# Altium footprint library Analog Devices Data Converters Analog-to-Digital Converters.PcbLib: 279 footprints (part 7 of 18)
Each footprint in its own frame and in the unit in brackets; x right, y up, seen from the top. Pads: shape width x height; smd on the part's side, far side on the other; paste and mask are expansions set on the pad; w line width, h text height; cw(c..) or ccw(c..) is an arc to the next point about the centre after c.
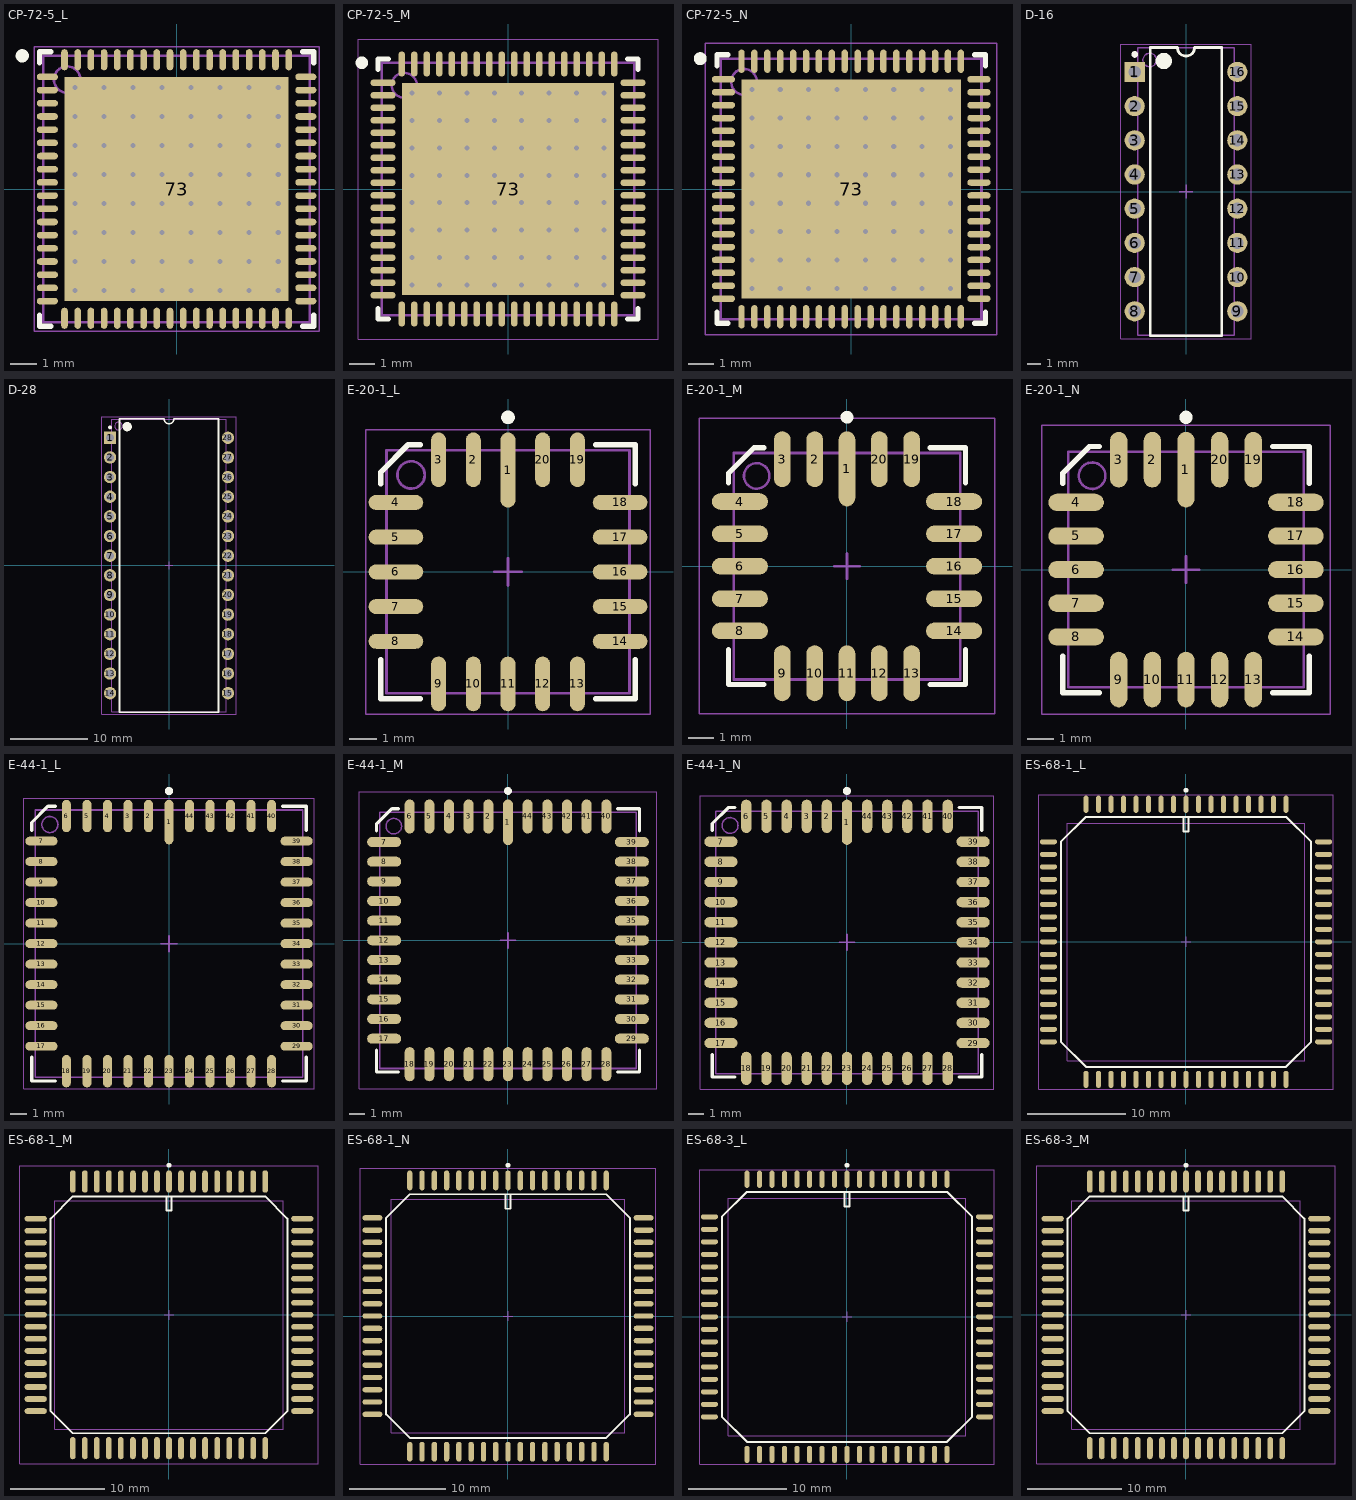
[diagram p6: the footprints below, top view; thin cyan lines are the x and y axes]

## CP-72-5_L [mm] "QFN, 72-Leads, Body 10x10mm, Pitch 0.5mm, Thermal Pad 8.5x8.5mm, IPC High Density"
height 1
pads (73):
  oval 0.8x0.25 smd: 1(-4.9,4.25) 2(-4.9,3.75) 3(-4.9,3.25) 4(-4.9,2.75) 5(-4.9,2.25) 6(-4.9,1.75) 7(-4.9,1.25) 8(-4.9,0.75) 9(-4.9,0.25) 10(-4.9,-0.25) 11(-4.9,-0.75) 12(-4.9,-1.25) 13(-4.9,-1.75) 14(-4.9,-2.25) 15(-4.9,-2.75) 16(-4.9,-3.25) 17(-4.9,-3.75) 18(-4.9,-4.25) 37(4.9,-4.25) 38(4.9,-3.75) 39(4.9,-3.25) 40(4.9,-2.75) 41(4.9,-2.25) 42(4.9,-1.75) 43(4.9,-1.25) 44(4.9,-0.75) 45(4.9,-0.25) 46(4.9,0.25) 47(4.9,0.75) 48(4.9,1.25) 49(4.9,1.75) 50(4.9,2.25) 51(4.9,2.75) 52(4.9,3.25) 53(4.9,3.75) 54(4.9,4.25)
  oval 0.25x0.8 smd: 19(-4.25,-4.9) 20(-3.75,-4.9) 21(-3.25,-4.9) 22(-2.75,-4.9) 23(-2.25,-4.9) 24(-1.75,-4.9) 25(-1.25,-4.9) 26(-0.75,-4.9) 27(-0.25,-4.9) 28(0.25,-4.9) 29(0.75,-4.9) 30(1.25,-4.9) 31(1.75,-4.9) 32(2.25,-4.9) 33(2.75,-4.9) 34(3.25,-4.9) 35(3.75,-4.9) 36(4.25,-4.9) 55(4.25,4.9) 56(3.75,4.9) 57(3.25,4.9) 58(2.75,4.9) 59(2.25,4.9) 60(1.75,4.9) 61(1.25,4.9) 62(0.75,4.9) 63(0.25,4.9) 64(-0.25,4.9) 65(-0.75,4.9) 66(-1.25,4.9) 67(-1.75,4.9) 68(-2.25,4.9) 69(-2.75,4.9) 70(-3.25,4.9) 71(-3.75,4.9) 72(-4.25,4.9)
  rect 8.5x8.5 smd: 73(0,0)
via 3.85,-3.85 diameter 0.5 hole 0.2
via 2.75,-3.85 diameter 0.5 hole 0.2
via 1.65,-3.85 diameter 0.5 hole 0.2
via 0.55,-3.85 diameter 0.5 hole 0.2
via -0.55,-3.85 diameter 0.5 hole 0.2
via -1.65,-3.85 diameter 0.5 hole 0.2
via -2.75,-3.85 diameter 0.5 hole 0.2
via -3.85,-3.85 diameter 0.5 hole 0.2
via 3.85,-2.75 diameter 0.5 hole 0.2
via 2.75,-2.75 diameter 0.5 hole 0.2
via 1.65,-2.75 diameter 0.5 hole 0.2
via 0.55,-2.75 diameter 0.5 hole 0.2
via -0.55,-2.75 diameter 0.5 hole 0.2
via -1.65,-2.75 diameter 0.5 hole 0.2
via -2.75,-2.75 diameter 0.5 hole 0.2
via -3.85,-2.75 diameter 0.5 hole 0.2
via 3.85,-1.65 diameter 0.5 hole 0.2
via 2.75,-1.65 diameter 0.5 hole 0.2
via 1.65,-1.65 diameter 0.5 hole 0.2
via 0.55,-1.65 diameter 0.5 hole 0.2
via -0.55,-1.65 diameter 0.5 hole 0.2
via -1.65,-1.65 diameter 0.5 hole 0.2
via -2.75,-1.65 diameter 0.5 hole 0.2
via -3.85,-1.65 diameter 0.5 hole 0.2
via 3.85,-0.55 diameter 0.5 hole 0.2
via 2.75,-0.55 diameter 0.5 hole 0.2
via 1.65,-0.55 diameter 0.5 hole 0.2
via 0.55,-0.55 diameter 0.5 hole 0.2
via -0.55,-0.55 diameter 0.5 hole 0.2
via -1.65,-0.55 diameter 0.5 hole 0.2
via -2.75,-0.55 diameter 0.5 hole 0.2
via -3.85,-0.55 diameter 0.5 hole 0.2
via 3.85,0.55 diameter 0.5 hole 0.2
via 2.75,0.55 diameter 0.5 hole 0.2
via 1.65,0.55 diameter 0.5 hole 0.2
via 0.55,0.55 diameter 0.5 hole 0.2
via -0.55,0.55 diameter 0.5 hole 0.2
via -1.65,0.55 diameter 0.5 hole 0.2
via -2.75,0.55 diameter 0.5 hole 0.2
via -3.85,0.55 diameter 0.5 hole 0.2
via 3.85,1.65 diameter 0.5 hole 0.2
via 2.75,1.65 diameter 0.5 hole 0.2
via 1.65,1.65 diameter 0.5 hole 0.2
via 0.55,1.65 diameter 0.5 hole 0.2
via -0.55,1.65 diameter 0.5 hole 0.2
via -1.65,1.65 diameter 0.5 hole 0.2
via -2.75,1.65 diameter 0.5 hole 0.2
via -3.85,1.65 diameter 0.5 hole 0.2
via 3.85,2.75 diameter 0.5 hole 0.2
via 2.75,2.75 diameter 0.5 hole 0.2
via 1.65,2.75 diameter 0.5 hole 0.2
via 0.55,2.75 diameter 0.5 hole 0.2
via -0.55,2.75 diameter 0.5 hole 0.2
via -1.65,2.75 diameter 0.5 hole 0.2
via -2.75,2.75 diameter 0.5 hole 0.2
via -3.85,2.75 diameter 0.5 hole 0.2
via 3.85,3.85 diameter 0.5 hole 0.2
via 2.75,3.85 diameter 0.5 hole 0.2
via 1.65,3.85 diameter 0.5 hole 0.2
via 0.55,3.85 diameter 0.5 hole 0.2
via -0.55,3.85 diameter 0.5 hole 0.2
via -1.65,3.85 diameter 0.5 hole 0.2
via -2.75,3.85 diameter 0.5 hole 0.2
via -3.85,3.85 diameter 0.5 hole 0.2
Top Overlay:
  circle w0.25: c-5.85,5.05 r0.125
  lines w0.2: -5.2,-4.775 -5.2,-5.2 -4.775,-5.2 ; -5.2,4.775 -5.2,5.2 -4.775,5.2 ; 4.775,-5.2 5.2,-5.2 5.2,-4.775 ; 4.775,5.2 5.2,5.2 5.2,4.775
Mechanical 13:
  circle w0.1: c-4.15,4.15 r0.5
  lines w0.1: -5.05,-5.05 5.05,-5.05 5.05,5.05 -5.05,5.05 -5.05,-5.05
Mechanical 15:
  lines w0.05: -5.4,-5.4 5.4,-5.4 5.4,5.4 -5.4,5.4 -5.4,-5.4
  lines w0.1: -0.5,0 0.5,0 ; 0,-0.5 0,0.5
3D body: height 1, standoff 0, extent -5.05,-5.05 5.05,5.05

## CP-72-5_M [mm] "QFN, 72-Leads, Body 10x10mm, Pitch 0.5mm, Thermal Pad 8.5x8.5mm, IPC Low Density"
height 1
pads (73):
  oval 1x0.25 smd: 1(-5,4.25) 2(-5,3.75) 3(-5,3.25) 4(-5,2.75) 5(-5,2.25) 6(-5,1.75) 7(-5,1.25) 8(-5,0.75) 9(-5,0.25) 10(-5,-0.25) 11(-5,-0.75) 12(-5,-1.25) 13(-5,-1.75) 14(-5,-2.25) 15(-5,-2.75) 16(-5,-3.25) 17(-5,-3.75) 18(-5,-4.25) 37(5,-4.25) 38(5,-3.75) 39(5,-3.25) 40(5,-2.75) 41(5,-2.25) 42(5,-1.75) 43(5,-1.25) 44(5,-0.75) 45(5,-0.25) 46(5,0.25) 47(5,0.75) 48(5,1.25) 49(5,1.75) 50(5,2.25) 51(5,2.75) 52(5,3.25) 53(5,3.75) 54(5,4.25)
  oval 0.25x1 smd: 19(-4.25,-5) 20(-3.75,-5) 21(-3.25,-5) 22(-2.75,-5) 23(-2.25,-5) 24(-1.75,-5) 25(-1.25,-5) 26(-0.75,-5) 27(-0.25,-5) 28(0.25,-5) 29(0.75,-5) 30(1.25,-5) 31(1.75,-5) 32(2.25,-5) 33(2.75,-5) 34(3.25,-5) 35(3.75,-5) 36(4.25,-5) 55(4.25,5) 56(3.75,5) 57(3.25,5) 58(2.75,5) 59(2.25,5) 60(1.75,5) 61(1.25,5) 62(0.75,5) 63(0.25,5) 64(-0.25,5) 65(-0.75,5) 66(-1.25,5) 67(-1.75,5) 68(-2.25,5) 69(-2.75,5) 70(-3.25,5) 71(-3.75,5) 72(-4.25,5)
  rect 8.5x8.5 smd: 73(0,0)
via 3.85,-3.85 diameter 0.5 hole 0.2
via 2.75,-3.85 diameter 0.5 hole 0.2
via 1.65,-3.85 diameter 0.5 hole 0.2
via 0.55,-3.85 diameter 0.5 hole 0.2
via -0.55,-3.85 diameter 0.5 hole 0.2
via -1.65,-3.85 diameter 0.5 hole 0.2
via -2.75,-3.85 diameter 0.5 hole 0.2
via -3.85,-3.85 diameter 0.5 hole 0.2
via 3.85,-2.75 diameter 0.5 hole 0.2
via 2.75,-2.75 diameter 0.5 hole 0.2
via 1.65,-2.75 diameter 0.5 hole 0.2
via 0.55,-2.75 diameter 0.5 hole 0.2
via -0.55,-2.75 diameter 0.5 hole 0.2
via -1.65,-2.75 diameter 0.5 hole 0.2
via -2.75,-2.75 diameter 0.5 hole 0.2
via -3.85,-2.75 diameter 0.5 hole 0.2
via 3.85,-1.65 diameter 0.5 hole 0.2
via 2.75,-1.65 diameter 0.5 hole 0.2
via 1.65,-1.65 diameter 0.5 hole 0.2
via 0.55,-1.65 diameter 0.5 hole 0.2
via -0.55,-1.65 diameter 0.5 hole 0.2
via -1.65,-1.65 diameter 0.5 hole 0.2
via -2.75,-1.65 diameter 0.5 hole 0.2
via -3.85,-1.65 diameter 0.5 hole 0.2
via 3.85,-0.55 diameter 0.5 hole 0.2
via 2.75,-0.55 diameter 0.5 hole 0.2
via 1.65,-0.55 diameter 0.5 hole 0.2
via 0.55,-0.55 diameter 0.5 hole 0.2
via -0.55,-0.55 diameter 0.5 hole 0.2
via -1.65,-0.55 diameter 0.5 hole 0.2
via -2.75,-0.55 diameter 0.5 hole 0.2
via -3.85,-0.55 diameter 0.5 hole 0.2
via 3.85,0.55 diameter 0.5 hole 0.2
via 2.75,0.55 diameter 0.5 hole 0.2
via 1.65,0.55 diameter 0.5 hole 0.2
via 0.55,0.55 diameter 0.5 hole 0.2
via -0.55,0.55 diameter 0.5 hole 0.2
via -1.65,0.55 diameter 0.5 hole 0.2
via -2.75,0.55 diameter 0.5 hole 0.2
via -3.85,0.55 diameter 0.5 hole 0.2
via 3.85,1.65 diameter 0.5 hole 0.2
via 2.75,1.65 diameter 0.5 hole 0.2
via 1.65,1.65 diameter 0.5 hole 0.2
via 0.55,1.65 diameter 0.5 hole 0.2
via -0.55,1.65 diameter 0.5 hole 0.2
via -1.65,1.65 diameter 0.5 hole 0.2
via -2.75,1.65 diameter 0.5 hole 0.2
via -3.85,1.65 diameter 0.5 hole 0.2
via 3.85,2.75 diameter 0.5 hole 0.2
via 2.75,2.75 diameter 0.5 hole 0.2
via 1.65,2.75 diameter 0.5 hole 0.2
via 0.55,2.75 diameter 0.5 hole 0.2
via -0.55,2.75 diameter 0.5 hole 0.2
via -1.65,2.75 diameter 0.5 hole 0.2
via -2.75,2.75 diameter 0.5 hole 0.2
via -3.85,2.75 diameter 0.5 hole 0.2
via 3.85,3.85 diameter 0.5 hole 0.2
via 2.75,3.85 diameter 0.5 hole 0.2
via 1.65,3.85 diameter 0.5 hole 0.2
via 0.55,3.85 diameter 0.5 hole 0.2
via -0.55,3.85 diameter 0.5 hole 0.2
via -1.65,3.85 diameter 0.5 hole 0.2
via -2.75,3.85 diameter 0.5 hole 0.2
via -3.85,3.85 diameter 0.5 hole 0.2
Top Overlay:
  circle w0.25: c-5.85,5.05 r0.125
  lines w0.2: -5.2,-4.775 -5.2,-5.2 -4.775,-5.2 ; -5.2,4.775 -5.2,5.2 -4.775,5.2 ; 4.775,-5.2 5.2,-5.2 5.2,-4.775 ; 4.775,5.2 5.2,5.2 5.2,4.775
Mechanical 13:
  circle w0.1: c-4.15,4.15 r0.5
  lines w0.1: -5.05,-5.05 5.05,-5.05 5.05,5.05 -5.05,5.05 -5.05,-5.05
Mechanical 15:
  lines w0.05: -6,-6 6,-6 6,6 -6,6 -6,-6
  lines w0.1: -0.5,0 0.5,0 ; 0,-0.5 0,0.5
3D body: height 1, standoff 0, extent -5.05,-5.05 5.05,5.05

## CP-72-5_N [mm] "QFN, 72-Leads, Body 10x10mm, Pitch 0.5mm, Thermal Pad 8.5x8.5mm, IPC Medium Density"
height 1
pads (73):
  oval 0.9x0.25 smd: 1(-4.95,4.25) 2(-4.95,3.75) 3(-4.95,3.25) 4(-4.95,2.75) 5(-4.95,2.25) 6(-4.95,1.75) 7(-4.95,1.25) 8(-4.95,0.75) 9(-4.95,0.25) 10(-4.95,-0.25) 11(-4.95,-0.75) 12(-4.95,-1.25) 13(-4.95,-1.75) 14(-4.95,-2.25) 15(-4.95,-2.75) 16(-4.95,-3.25) 17(-4.95,-3.75) 18(-4.95,-4.25) 37(4.95,-4.25) 38(4.95,-3.75) 39(4.95,-3.25) 40(4.95,-2.75) 41(4.95,-2.25) 42(4.95,-1.75) 43(4.95,-1.25) 44(4.95,-0.75) 45(4.95,-0.25) 46(4.95,0.25) 47(4.95,0.75) 48(4.95,1.25) 49(4.95,1.75) 50(4.95,2.25) 51(4.95,2.75) 52(4.95,3.25) 53(4.95,3.75) 54(4.95,4.25)
  oval 0.25x0.9 smd: 19(-4.25,-4.95) 20(-3.75,-4.95) 21(-3.25,-4.95) 22(-2.75,-4.95) 23(-2.25,-4.95) 24(-1.75,-4.95) 25(-1.25,-4.95) 26(-0.75,-4.95) 27(-0.25,-4.95) 28(0.25,-4.95) 29(0.75,-4.95) 30(1.25,-4.95) 31(1.75,-4.95) 32(2.25,-4.95) 33(2.75,-4.95) 34(3.25,-4.95) 35(3.75,-4.95) 36(4.25,-4.95) 55(4.25,4.95) 56(3.75,4.95) 57(3.25,4.95) 58(2.75,4.95) 59(2.25,4.95) 60(1.75,4.95) 61(1.25,4.95) 62(0.75,4.95) 63(0.25,4.95) 64(-0.25,4.95) 65(-0.75,4.95) 66(-1.25,4.95) 67(-1.75,4.95) 68(-2.25,4.95) 69(-2.75,4.95) 70(-3.25,4.95) 71(-3.75,4.95) 72(-4.25,4.95)
  rect 8.5x8.5 smd: 73(0,0)
via -3.85,3.85 diameter 0.5 hole 0.2
via -2.75,3.85 diameter 0.5 hole 0.2
via -1.65,3.85 diameter 0.5 hole 0.2
via -0.55,3.85 diameter 0.5 hole 0.2
via 0.55,3.85 diameter 0.5 hole 0.2
via 1.65,3.85 diameter 0.5 hole 0.2
via 2.75,3.85 diameter 0.5 hole 0.2
via 3.85,3.85 diameter 0.5 hole 0.2
via -3.85,2.75 diameter 0.5 hole 0.2
via -2.75,2.75 diameter 0.5 hole 0.2
via -1.65,2.75 diameter 0.5 hole 0.2
via -0.55,2.75 diameter 0.5 hole 0.2
via 0.55,2.75 diameter 0.5 hole 0.2
via 1.65,2.75 diameter 0.5 hole 0.2
via 2.75,2.75 diameter 0.5 hole 0.2
via 3.85,2.75 diameter 0.5 hole 0.2
via -3.85,1.65 diameter 0.5 hole 0.2
via -2.75,1.65 diameter 0.5 hole 0.2
via -1.65,1.65 diameter 0.5 hole 0.2
via -0.55,1.65 diameter 0.5 hole 0.2
via 0.55,1.65 diameter 0.5 hole 0.2
via 1.65,1.65 diameter 0.5 hole 0.2
via 2.75,1.65 diameter 0.5 hole 0.2
via 3.85,1.65 diameter 0.5 hole 0.2
via -3.85,0.55 diameter 0.5 hole 0.2
via -2.75,0.55 diameter 0.5 hole 0.2
via -1.65,0.55 diameter 0.5 hole 0.2
via -0.55,0.55 diameter 0.5 hole 0.2
via 0.55,0.55 diameter 0.5 hole 0.2
via 1.65,0.55 diameter 0.5 hole 0.2
via 2.75,0.55 diameter 0.5 hole 0.2
via 3.85,0.55 diameter 0.5 hole 0.2
via -3.85,-0.55 diameter 0.5 hole 0.2
via -2.75,-0.55 diameter 0.5 hole 0.2
via -1.65,-0.55 diameter 0.5 hole 0.2
via -0.55,-0.55 diameter 0.5 hole 0.2
via 0.55,-0.55 diameter 0.5 hole 0.2
via 1.65,-0.55 diameter 0.5 hole 0.2
via 2.75,-0.55 diameter 0.5 hole 0.2
via 3.85,-0.55 diameter 0.5 hole 0.2
via -3.85,-1.65 diameter 0.5 hole 0.2
via -2.75,-1.65 diameter 0.5 hole 0.2
via -1.65,-1.65 diameter 0.5 hole 0.2
via -0.55,-1.65 diameter 0.5 hole 0.2
via 0.55,-1.65 diameter 0.5 hole 0.2
via 1.65,-1.65 diameter 0.5 hole 0.2
via 2.75,-1.65 diameter 0.5 hole 0.2
via 3.85,-1.65 diameter 0.5 hole 0.2
via -3.85,-2.75 diameter 0.5 hole 0.2
via -2.75,-2.75 diameter 0.5 hole 0.2
via -1.65,-2.75 diameter 0.5 hole 0.2
via -0.55,-2.75 diameter 0.5 hole 0.2
via 0.55,-2.75 diameter 0.5 hole 0.2
via 1.65,-2.75 diameter 0.5 hole 0.2
via 2.75,-2.75 diameter 0.5 hole 0.2
via 3.85,-2.75 diameter 0.5 hole 0.2
via -3.85,-3.85 diameter 0.5 hole 0.2
via -2.75,-3.85 diameter 0.5 hole 0.2
via -1.65,-3.85 diameter 0.5 hole 0.2
via -0.55,-3.85 diameter 0.5 hole 0.2
via 0.55,-3.85 diameter 0.5 hole 0.2
via 1.65,-3.85 diameter 0.5 hole 0.2
via 2.75,-3.85 diameter 0.5 hole 0.2
via 3.85,-3.85 diameter 0.5 hole 0.2
Top Overlay:
  circle w0.25: c-5.85,5.05 r0.125
  lines w0.2: -5.2,-4.775 -5.2,-5.2 -4.775,-5.2 ; -5.2,4.775 -5.2,5.2 -4.775,5.2 ; 4.775,-5.2 5.2,-5.2 5.2,-4.775 ; 4.775,5.2 5.2,5.2 5.2,4.775
Mechanical 13:
  circle w0.1: c-4.15,4.15 r0.5
  lines w0.1: -5.05,-5.05 -5.05,5.05 5.05,5.05 5.05,-5.05 -5.05,-5.05
Mechanical 15:
  lines w0.05: -5.65,-5.65 -5.65,5.65 5.65,5.65 5.65,-5.65 -5.65,-5.65
  lines w0.1: -0.5,0 0.5,0 ; 0,-0.5 0,0.5
3D body: height 1, standoff 0, extent -5.05,-5.05 5.05,5.05

## D-16 [mm] "DIP, 16-Leads, Row Spacing 7.62mm, Pitch 2.54mm, Body 21.3x6.7mm"
height 5.08
pads (16):
  rect 1.5x1.5 hole 0.9: 1(-3.81,8.89)
  round 1.5 hole 0.9: 2(-3.81,6.35) 3(-3.81,3.81) 4(-3.81,1.27) 5(-3.81,-1.27) 6(-3.81,-3.81) 7(-3.81,-6.35) 8(-3.81,-8.89) 9(3.81,-8.89) 10(3.81,-6.35) 11(3.81,-3.81) 12(3.81,-1.27) 13(3.81,1.27) 14(3.81,3.81) 15(3.81,6.35) 16(3.81,8.89)
Top Overlay:
  circle w0.6: c-1.65,9.7 r0.3
  circle w0.25: c-3.81,10.19 r0.125
  lines w0.2: -2.65,-10.7 2.65,-10.7 2.65,10.7 0.635,10.7 cw(c0,10.7) -0.635,10.7 -2.65,10.7 -2.65,-10.7
Mechanical 13:
  circle w0.1: c-2.7,9.775 r0.5
  lines w0.1: -3.6,-10.675 3.6,-10.675 3.6,10.675 -3.6,10.675 -3.6,-10.675
Mechanical 15:
  lines w0.05: -4.85,-10.95 4.85,-10.95 4.85,10.95 -4.85,10.95 -4.85,-10.95
  lines w0.1: -0.5,0 0.5,0 ; 0,-0.5 0,0.5
3D body: height 5.08, standoff 0.38, extent -3.6,-10.675 3.6,10.675

## D-28 [mm] "DIP, 28-Leads, Row Spacing 15.24mm, Pitch 2.54mm, Body 37.1x15.1mm"
height 5.72
pads (28):
  rect 1.6x1.6 hole 1: 1(-7.62,16.51)
  round 1.6 hole 1: 2(-7.62,13.97) 3(-7.62,11.43) 4(-7.62,8.89) 5(-7.62,6.35) 6(-7.62,3.81) 7(-7.62,1.27) 8(-7.62,-1.27) 9(-7.62,-3.81) 10(-7.62,-6.35) 11(-7.62,-8.89) 12(-7.62,-11.43) 13(-7.62,-13.97) 14(-7.62,-16.51) 15(7.62,-16.51) 16(7.62,-13.97) 17(7.62,-11.43) 18(7.62,-8.89) 19(7.62,-6.35) 20(7.62,-3.81) 21(7.62,-1.27) 22(7.62,1.27) 23(7.62,3.81) 24(7.62,6.35) 25(7.62,8.89) 26(7.62,11.43) 27(7.62,13.97) 28(7.62,16.51)
Top Overlay:
  circle w0.25: c-7.62,17.86 r0.125
  circle w0.6: c-5.4,17.95 r0.3
  lines w0.2: -6.4,-18.95 -6.4,18.95 -0.635,18.95 ccw(c0,18.95) 0.635,18.95 6.4,18.95 6.4,-18.95 -6.4,-18.95
Mechanical 13:
  circle w0.1: c-6.525,18.025 r0.5
  lines w0.1: -7.425,-18.925 -7.425,18.925 7.425,18.925 7.425,-18.925 -7.425,-18.925
Mechanical 15:
  lines w0.05: -8.7,-19.2 -8.7,19.2 8.7,19.2 8.7,-19.2 -8.7,-19.2
  lines w0.1: -0.5,0 0.5,0 ; 0,-0.5 0,0.5
3D body: height 5.72, standoff 0.38, extent -7.425,-18.925 7.425,18.925

## E-20-1_L [mm] "Leadless Chip Carrier, 20-Leads, Body 8.9x8.9mm, Pitch 1.27mm, IPC High Density"
height 2.54
pads (20):
  oval 0.55x2.75 smd: 1(0,3.725)
  oval 0.55x2 smd: 2(-1.27,4.1) 3(-2.54,4.1) 9(-2.54,-4.1) 10(-1.27,-4.1) 11(0,-4.1) 12(1.27,-4.1) 13(2.54,-4.1) 19(2.54,4.1) 20(1.27,4.1)
  oval 2x0.55 smd: 4(-4.1,2.54) 5(-4.1,1.27) 6(-4.1,0) 7(-4.1,-1.27) 8(-4.1,-2.54) 14(4.1,-2.54) 15(4.1,-1.27) 16(4.1,0) 17(4.1,1.27) 18(4.1,2.54)
Top Overlay:
  circle w0.25: c0,5.65 r0.125
  lines w0.2: -4.65,-3.215 -4.65,-4.65 -3.215,-4.65 ; -4.65,3.215 -4.65,3.65 -3.65,4.65 -3.215,4.65 ; 3.215,-4.65 4.65,-4.65 4.65,-3.215 ; 3.215,4.65 4.65,4.65 4.65,3.215
Mechanical 13:
  circle w0.1: c-3.545,3.545 r0.5
  lines w0.1: -4.445,-4.445 4.445,-4.445 4.445,4.445 -4.445,4.445 -4.445,-4.445
Mechanical 15:
  lines w0.05: -5.2,-5.2 5.2,-5.2 5.2,5.2 -5.2,5.2 -5.2,-5.2
  lines w0.1: -0.5,0 0.5,0 ; 0,-0.5 0,0.5
3D body: height 2.54, standoff 0, extent -4.445,-4.445 4.445,4.445

## E-20-1_M [mm] "Leadless Chip Carrier, 20-Leads, Body 8.9x8.9mm, Pitch 1.27mm, IPC Low Density"
height 2.54
pads (20):
  oval 0.65x2.95 smd: 1(0,3.825)
  oval 0.65x2.2 smd: 2(-1.27,4.2) 3(-2.54,4.2) 9(-2.54,-4.2) 10(-1.27,-4.2) 11(0,-4.2) 12(1.27,-4.2) 13(2.54,-4.2) 19(2.54,4.2) 20(1.27,4.2)
  oval 2.2x0.65 smd: 4(-4.2,2.54) 5(-4.2,1.27) 6(-4.2,0) 7(-4.2,-1.27) 8(-4.2,-2.54) 14(4.2,-2.54) 15(4.2,-1.27) 16(4.2,0) 17(4.2,1.27) 18(4.2,2.54)
Top Overlay:
  circle w0.25: c0,5.85 r0.125
  lines w0.2: -4.65,-3.265 -4.65,-4.65 -3.265,-4.65 ; -4.65,3.265 -4.65,3.65 -3.65,4.65 -3.265,4.65 ; 3.265,-4.65 4.65,-4.65 4.65,-3.265 ; 3.265,4.65 4.65,4.65 4.65,3.265
Mechanical 13:
  circle w0.1: c-3.545,3.545 r0.5
  lines w0.1: -4.445,-4.445 -4.445,4.445 4.445,4.445 4.445,-4.445 -4.445,-4.445
Mechanical 15:
  lines w0.05: -5.8,-5.8 -5.8,5.8 5.8,5.8 5.8,-5.8 -5.8,-5.8
  lines w0.1: -0.5,0 0.5,0 ; 0,-0.5 0,0.5
3D body: height 2.54, standoff 0, extent -4.445,-4.445 4.445,4.445

## E-20-1_N [mm] "Leadless Chip Carrier, 20-Leads, Body 8.9x8.9mm, Pitch 1.27mm, IPC Medium Density"
height 2.54
pads (20):
  oval 0.65x2.85 smd: 1(0,3.775)
  oval 0.65x2.1 smd: 2(-1.27,4.15) 3(-2.54,4.15) 9(-2.54,-4.15) 10(-1.27,-4.15) 11(0,-4.15) 12(1.27,-4.15) 13(2.54,-4.15) 19(2.54,4.15) 20(1.27,4.15)
  oval 2.1x0.65 smd: 4(-4.15,2.54) 5(-4.15,1.27) 6(-4.15,0) 7(-4.15,-1.27) 8(-4.15,-2.54) 14(4.15,-2.54) 15(4.15,-1.27) 16(4.15,0) 17(4.15,1.27) 18(4.15,2.54)
Top Overlay:
  circle w0.25: c0,5.75 r0.125
  lines w0.2: -4.65,-3.265 -4.65,-4.65 -3.265,-4.65 ; -4.65,3.265 -4.65,3.65 -3.65,4.65 -3.265,4.65 ; 3.265,-4.65 4.65,-4.65 4.65,-3.265 ; 3.265,4.65 4.65,4.65 4.65,3.265
Mechanical 13:
  circle w0.1: c-3.545,3.545 r0.5
  lines w0.1: -4.445,-4.445 -4.445,4.445 4.445,4.445 4.445,-4.445 -4.445,-4.445
Mechanical 15:
  lines w0.05: -5.45,-5.45 -5.45,5.45 5.45,5.45 5.45,-5.45 -5.45,-5.45
  lines w0.1: -0.5,0 0.5,0 ; 0,-0.5 0,0.5
3D body: height 2.54, standoff 0, extent -4.445,-4.445 4.445,4.445

## E-44-1_L [mm] "Leadless Chip Carrier, 44-Leads, Body 16.5x16.5mm, Pitch 1.27mm, IPC High Density"
height 2.54
pads (44):
  oval 0.55x2.75 smd: 1(0,7.525)
  oval 0.55x2 smd: 2(-1.27,7.9) 3(-2.54,7.9) 4(-3.81,7.9) 5(-5.08,7.9) 6(-6.35,7.9) 18(-6.35,-7.9) 19(-5.08,-7.9) 20(-3.81,-7.9) 21(-2.54,-7.9) 22(-1.27,-7.9) 23(0,-7.9) 24(1.27,-7.9) 25(2.54,-7.9) 26(3.81,-7.9) 27(5.08,-7.9) 28(6.35,-7.9) 40(6.35,7.9) 41(5.08,7.9) 42(3.81,7.9) 43(2.54,7.9) 44(1.27,7.9)
  oval 2x0.55 smd: 7(-7.9,6.35) 8(-7.9,5.08) 9(-7.9,3.81) 10(-7.9,2.54) 11(-7.9,1.27) 12(-7.9,0) 13(-7.9,-1.27) 14(-7.9,-2.54) 15(-7.9,-3.81) 16(-7.9,-5.08) 17(-7.9,-6.35) 29(7.9,-6.35) 30(7.9,-5.08) 31(7.9,-3.81) 32(7.9,-2.54) 33(7.9,-1.27) 34(7.9,0) 35(7.9,1.27) 36(7.9,2.54) 37(7.9,3.81) 38(7.9,5.08) 39(7.9,6.35)
Top Overlay:
  circle w0.25: c0,9.45 r0.125
  lines w0.2: -8.5,-7.025 -8.5,-8.5 -7.025,-8.5 ; -8.5,7.025 -8.5,7.5 -7.5,8.5 -7.025,8.5 ; 7.025,-8.5 8.5,-8.5 8.5,-7.025 ; 7.025,8.5 8.5,8.5 8.5,7.025
Mechanical 13:
  circle w0.1: c-7.375,7.375 r0.5
  lines w0.1: -8.275,-8.275 -8.275,8.275 8.275,8.275 8.275,-8.275 -8.275,-8.275
Mechanical 15:
  lines w0.05: -9,-9 -9,9 9,9 9,-9 -9,-9
  lines w0.1: -0.5,0 0.5,0 ; 0,-0.5 0,0.5
3D body: height 2.54, standoff 0, extent -8.275,-8.275 8.275,8.275

## E-44-1_M [mm] "Leadless Chip Carrier, 44-Leads, Body 16.5x16.5mm, Pitch 1.27mm, IPC Low Density"
height 2.54
pads (44):
  oval 0.65x2.95 smd: 1(0,7.625)
  oval 0.65x2.2 smd: 2(-1.27,8) 3(-2.54,8) 4(-3.81,8) 5(-5.08,8) 6(-6.35,8) 18(-6.35,-8) 19(-5.08,-8) 20(-3.81,-8) 21(-2.54,-8) 22(-1.27,-8) 23(0,-8) 24(1.27,-8) 25(2.54,-8) 26(3.81,-8) 27(5.08,-8) 28(6.35,-8) 40(6.35,8) 41(5.08,8) 42(3.81,8) 43(2.54,8) 44(1.27,8)
  oval 2.2x0.65 smd: 7(-8,6.35) 8(-8,5.08) 9(-8,3.81) 10(-8,2.54) 11(-8,1.27) 12(-8,0) 13(-8,-1.27) 14(-8,-2.54) 15(-8,-3.81) 16(-8,-5.08) 17(-8,-6.35) 29(8,-6.35) 30(8,-5.08) 31(8,-3.81) 32(8,-2.54) 33(8,-1.27) 34(8,0) 35(8,1.27) 36(8,2.54) 37(8,3.81) 38(8,5.08) 39(8,6.35)
Top Overlay:
  circle w0.25: c0,9.65 r0.125
  lines w0.2: -8.5,-7.075 -8.5,-8.5 -7.075,-8.5 ; -8.5,7.075 -8.5,7.5 -7.5,8.5 -7.075,8.5 ; 7.075,-8.5 8.5,-8.5 8.5,-7.075 ; 7.075,8.5 8.5,8.5 8.5,7.075
Mechanical 13:
  circle w0.1: c-7.375,7.375 r0.5
  lines w0.1: -8.275,-8.275 8.275,-8.275 8.275,8.275 -8.275,8.275 -8.275,-8.275
Mechanical 15:
  lines w0.05: -9.6,-9.6 9.6,-9.6 9.6,9.6 -9.6,9.6 -9.6,-9.6
  lines w0.1: -0.5,0 0.5,0 ; 0,-0.5 0,0.5
3D body: height 2.54, standoff 0, extent -8.275,-8.275 8.275,8.275

## E-44-1_N [mm] "Leadless Chip Carrier, 44-Leads, Body 16.5x16.5mm, Pitch 1.27mm, IPC Medium Density"
height 2.54
pads (44):
  oval 0.65x2.85 smd: 1(0,7.575)
  oval 0.65x2.1 smd: 2(-1.27,7.95) 3(-2.54,7.95) 4(-3.81,7.95) 5(-5.08,7.95) 6(-6.35,7.95) 18(-6.35,-7.95) 19(-5.08,-7.95) 20(-3.81,-7.95) 21(-2.54,-7.95) 22(-1.27,-7.95) 23(0,-7.95) 24(1.27,-7.95) 25(2.54,-7.95) 26(3.81,-7.95) 27(5.08,-7.95) 28(6.35,-7.95) 40(6.35,7.95) 41(5.08,7.95) 42(3.81,7.95) 43(2.54,7.95) 44(1.27,7.95)
  oval 2.1x0.65 smd: 7(-7.95,6.35) 8(-7.95,5.08) 9(-7.95,3.81) 10(-7.95,2.54) 11(-7.95,1.27) 12(-7.95,0) 13(-7.95,-1.27) 14(-7.95,-2.54) 15(-7.95,-3.81) 16(-7.95,-5.08) 17(-7.95,-6.35) 29(7.95,-6.35) 30(7.95,-5.08) 31(7.95,-3.81) 32(7.95,-2.54) 33(7.95,-1.27) 34(7.95,0) 35(7.95,1.27) 36(7.95,2.54) 37(7.95,3.81) 38(7.95,5.08) 39(7.95,6.35)
Top Overlay:
  circle w0.25: c0,9.55 r0.125
  lines w0.2: -8.5,-7.075 -8.5,-8.5 -7.075,-8.5 ; -8.5,7.075 -8.5,7.5 -7.5,8.5 -7.075,8.5 ; 7.075,-8.5 8.5,-8.5 8.5,-7.075 ; 7.075,8.5 8.5,8.5 8.5,7.075
Mechanical 13:
  circle w0.1: c-7.375,7.375 r0.5
  lines w0.1: -8.275,-8.275 8.275,-8.275 8.275,8.275 -8.275,8.275 -8.275,-8.275
Mechanical 15:
  lines w0.05: -9.25,-9.25 9.25,-9.25 9.25,9.25 -9.25,9.25 -9.25,-9.25
  lines w0.1: -0.5,0 0.5,0 ; 0,-0.5 0,0.5
3D body: height 2.54, standoff 0, extent -8.275,-8.275 8.275,8.275

## ES-68-1_L [mm] "CQFP, 68-Leads, Body 24.1x24.1mm; Pitch 1.27mm, Gullwing Leadform, IPC High Density"
height 7.37
pads (68):
  oval 0.5x1.75 smd: 1(0,13.975) 2(-1.27,13.975) 3(-2.54,13.975) 4(-3.81,13.975) 5(-5.08,13.975) 6(-6.35,13.975) 7(-7.62,13.975) 8(-8.89,13.975) 9(-10.16,13.975) 27(-10.16,-13.975) 28(-8.89,-13.975) 29(-7.62,-13.975) 30(-6.35,-13.975) 31(-5.08,-13.975) 32(-3.81,-13.975) 33(-2.54,-13.975) 34(-1.27,-13.975) 35(0,-13.975) 36(1.27,-13.975) 37(2.54,-13.975) 38(3.81,-13.975) 39(5.08,-13.975) 40(6.35,-13.975) 41(7.62,-13.975) 42(8.89,-13.975) 43(10.16,-13.975) 61(10.16,13.975) 62(8.89,13.975) 63(7.62,13.975) 64(6.35,13.975) 65(5.08,13.975) 66(3.81,13.975) 67(2.54,13.975) 68(1.27,13.975)
  oval 1.75x0.5 smd: 10(-13.975,10.16) 11(-13.975,8.89) 12(-13.975,7.62) 13(-13.975,6.35) 14(-13.975,5.08) 15(-13.975,3.81) 16(-13.975,2.54) 17(-13.975,1.27) 18(-13.975,0) 19(-13.975,-1.27) 20(-13.975,-2.54) 21(-13.975,-3.81) 22(-13.975,-5.08) 23(-13.975,-6.35) 24(-13.975,-7.62) 25(-13.975,-8.89) 26(-13.975,-10.16) 44(13.975,-10.16) 45(13.975,-8.89) 46(13.975,-7.62) 47(13.975,-6.35) 48(13.975,-5.08) 49(13.975,-3.81) 50(13.975,-2.54) 51(13.975,-1.27) 52(13.975,0) 53(13.975,1.27) 54(13.975,2.54) 55(13.975,3.81) 56(13.975,5.08) 57(13.975,6.35) 58(13.975,7.62) 59(13.975,8.89) 60(13.975,10.16)
Top Overlay:
  circle w0.25: c0,15.4 r0.125
  lines w0.2: -0.25,12.7 -0.25,11.2 0.25,11.2 0.25,12.7 ; -12.7,-10.16 -10.16,-12.7 10.16,-12.7 12.7,-10.16 12.7,10.16 10.16,12.7 -10.16,12.7 -12.7,10.16 -12.7,-10.16
Mechanical 13:
  lines w0.1: -12.065,-12.065 12.065,-12.065 12.065,12.065 -12.065,12.065 -12.065,-12.065
Mechanical 15:
  lines w0.05: -14.95,-14.95 14.95,-14.95 14.95,14.95 -14.95,14.95 -14.95,-14.95
  lines w0.1: -0.5,0 0.5,0 ; 0,-0.5 0,0.5
3D body: height 7.37, standoff 1.02, extent -12.065,-12.065 12.065,12.065

## ES-68-1_M [mm] "CQFP, 68-Leads, Body 24.1x24.1mm; Pitch 1.27mm, Gullwing Leadform, IPC Low Density"
height 7.37
pads (68):
  oval 0.6x2.35 smd: 1(0,14.075) 2(-1.27,14.075) 3(-2.54,14.075) 4(-3.81,14.075) 5(-5.08,14.075) 6(-6.35,14.075) 7(-7.62,14.075) 8(-8.89,14.075) 9(-10.16,14.075) 27(-10.16,-14.075) 28(-8.89,-14.075) 29(-7.62,-14.075) 30(-6.35,-14.075) 31(-5.08,-14.075) 32(-3.81,-14.075) 33(-2.54,-14.075) 34(-1.27,-14.075) 35(0,-14.075) 36(1.27,-14.075) 37(2.54,-14.075) 38(3.81,-14.075) 39(5.08,-14.075) 40(6.35,-14.075) 41(7.62,-14.075) 42(8.89,-14.075) 43(10.16,-14.075) 61(10.16,14.075) 62(8.89,14.075) 63(7.62,14.075) 64(6.35,14.075) 65(5.08,14.075) 66(3.81,14.075) 67(2.54,14.075) 68(1.27,14.075)
  oval 2.35x0.6 smd: 10(-14.075,10.16) 11(-14.075,8.89) 12(-14.075,7.62) 13(-14.075,6.35) 14(-14.075,5.08) 15(-14.075,3.81) 16(-14.075,2.54) 17(-14.075,1.27) 18(-14.075,0) 19(-14.075,-1.27) 20(-14.075,-2.54) 21(-14.075,-3.81) 22(-14.075,-5.08) 23(-14.075,-6.35) 24(-14.075,-7.62) 25(-14.075,-8.89) 26(-14.075,-10.16) 44(14.075,-10.16) 45(14.075,-8.89) 46(14.075,-7.62) 47(14.075,-6.35) 48(14.075,-5.08) 49(14.075,-3.81) 50(14.075,-2.54) 51(14.075,-1.27) 52(14.075,0) 53(14.075,1.27) 54(14.075,2.54) 55(14.075,3.81) 56(14.075,5.08) 57(14.075,6.35) 58(14.075,7.62) 59(14.075,8.89) 60(14.075,10.16)
Top Overlay:
  circle w0.25: c0,15.8 r0.125
  lines w0.2: -0.25,12.5 -0.25,11 0.25,11 0.25,12.5 ; -12.5,-10.16 -12.5,10.16 -10.16,12.5 10.16,12.5 12.5,10.16 12.5,-10.16 10.16,-12.5 -10.16,-12.5 -12.5,-10.16
Mechanical 13:
  lines w0.1: -12.065,-12.065 -12.065,12.065 12.065,12.065 12.065,-12.065 -12.065,-12.065
Mechanical 15:
  lines w0.05: -15.75,-15.75 -15.75,15.75 15.75,15.75 15.75,-15.75 -15.75,-15.75
  lines w0.1: -0.5,0 0.5,0 ; 0,-0.5 0,0.5
3D body: height 7.37, standoff 1.02, extent -12.065,-12.065 12.065,12.065

## ES-68-1_N [mm] "CQFP, 68-Leads, Body 24.1x24.1mm; Pitch 1.27mm, Gullwing Leadform, IPC Medium Density"
height 7.37
pads (68):
  oval 0.55x2.05 smd: 1(0,14.025) 2(-1.27,14.025) 3(-2.54,14.025) 4(-3.81,14.025) 5(-5.08,14.025) 6(-6.35,14.025) 7(-7.62,14.025) 8(-8.89,14.025) 9(-10.16,14.025) 27(-10.16,-14.025) 28(-8.89,-14.025) 29(-7.62,-14.025) 30(-6.35,-14.025) 31(-5.08,-14.025) 32(-3.81,-14.025) 33(-2.54,-14.025) 34(-1.27,-14.025) 35(0,-14.025) 36(1.27,-14.025) 37(2.54,-14.025) 38(3.81,-14.025) 39(5.08,-14.025) 40(6.35,-14.025) 41(7.62,-14.025) 42(8.89,-14.025) 43(10.16,-14.025) 61(10.16,14.025) 62(8.89,14.025) 63(7.62,14.025) 64(6.35,14.025) 65(5.08,14.025) 66(3.81,14.025) 67(2.54,14.025) 68(1.27,14.025)
  oval 2.05x0.55 smd: 10(-14.025,10.16) 11(-14.025,8.89) 12(-14.025,7.62) 13(-14.025,6.35) 14(-14.025,5.08) 15(-14.025,3.81) 16(-14.025,2.54) 17(-14.025,1.27) 18(-14.025,0) 19(-14.025,-1.27) 20(-14.025,-2.54) 21(-14.025,-3.81) 22(-14.025,-5.08) 23(-14.025,-6.35) 24(-14.025,-7.62) 25(-14.025,-8.89) 26(-14.025,-10.16) 44(14.025,-10.16) 45(14.025,-8.89) 46(14.025,-7.62) 47(14.025,-6.35) 48(14.025,-5.08) 49(14.025,-3.81) 50(14.025,-2.54) 51(14.025,-1.27) 52(14.025,0) 53(14.025,1.27) 54(14.025,2.54) 55(14.025,3.81) 56(14.025,5.08) 57(14.025,6.35) 58(14.025,7.62) 59(14.025,8.89) 60(14.025,10.16)
Top Overlay:
  circle w0.25: c0,15.6 r0.125
  lines w0.2: -0.25,12.6 -0.25,11.1 0.25,11.1 0.25,12.6 ; -12.6,-10.16 -10.16,-12.6 10.16,-12.6 12.6,-10.16 12.6,10.16 10.16,12.6 -10.16,12.6 -12.6,10.16 -12.6,-10.16
Mechanical 13:
  lines w0.1: -12.065,-12.065 12.065,-12.065 12.065,12.065 -12.065,12.065 -12.065,-12.065
Mechanical 15:
  lines w0.05: -15.3,-15.3 15.3,-15.3 15.3,15.3 -15.3,15.3 -15.3,-15.3
  lines w0.1: -0.5,0 0.5,0 ; 0,-0.5 0,0.5
3D body: height 7.37, standoff 1.02, extent -12.065,-12.065 12.065,12.065

## ES-68-3_L [mm] "CQFP, 68-Leads, Body 24.1x24.1mm; Pitch 1.27mm, Gullwing Leadform, IPC High Density"
height 7.37
pads (68):
  oval 0.5x1.75 smd: 1(0,13.975) 2(-1.27,13.975) 3(-2.54,13.975) 4(-3.81,13.975) 5(-5.08,13.975) 6(-6.35,13.975) 7(-7.62,13.975) 8(-8.89,13.975) 9(-10.16,13.975) 27(-10.16,-13.975) 28(-8.89,-13.975) 29(-7.62,-13.975) 30(-6.35,-13.975) 31(-5.08,-13.975) 32(-3.81,-13.975) 33(-2.54,-13.975) 34(-1.27,-13.975) 35(0,-13.975) 36(1.27,-13.975) 37(2.54,-13.975) 38(3.81,-13.975) 39(5.08,-13.975) 40(6.35,-13.975) 41(7.62,-13.975) 42(8.89,-13.975) 43(10.16,-13.975) 61(10.16,13.975) 62(8.89,13.975) 63(7.62,13.975) 64(6.35,13.975) 65(5.08,13.975) 66(3.81,13.975) 67(2.54,13.975) 68(1.27,13.975)
  oval 1.75x0.5 smd: 10(-13.975,10.16) 11(-13.975,8.89) 12(-13.975,7.62) 13(-13.975,6.35) 14(-13.975,5.08) 15(-13.975,3.81) 16(-13.975,2.54) 17(-13.975,1.27) 18(-13.975,0) 19(-13.975,-1.27) 20(-13.975,-2.54) 21(-13.975,-3.81) 22(-13.975,-5.08) 23(-13.975,-6.35) 24(-13.975,-7.62) 25(-13.975,-8.89) 26(-13.975,-10.16) 44(13.975,-10.16) 45(13.975,-8.89) 46(13.975,-7.62) 47(13.975,-6.35) 48(13.975,-5.08) 49(13.975,-3.81) 50(13.975,-2.54) 51(13.975,-1.27) 52(13.975,0) 53(13.975,1.27) 54(13.975,2.54) 55(13.975,3.81) 56(13.975,5.08) 57(13.975,6.35) 58(13.975,7.62) 59(13.975,8.89) 60(13.975,10.16)
Top Overlay:
  circle w0.25: c0,15.4 r0.125
  lines w0.2: -0.25,12.7 -0.25,11.2 0.25,11.2 0.25,12.7 ; -12.7,-10.16 -10.16,-12.7 10.16,-12.7 12.7,-10.16 12.7,10.16 10.16,12.7 -10.16,12.7 -12.7,10.16 -12.7,-10.16
Mechanical 13:
  lines w0.1: -12.065,-12.065 12.065,-12.065 12.065,12.065 -12.065,12.065 -12.065,-12.065
Mechanical 15:
  lines w0.05: -14.95,-14.95 14.95,-14.95 14.95,14.95 -14.95,14.95 -14.95,-14.95
  lines w0.1: -0.5,0 0.5,0 ; 0,-0.5 0,0.5
3D body: height 7.37, standoff 1.02, extent -12.065,-12.065 12.065,12.065

## ES-68-3_M [mm] "CQFP, 68-Leads, Body 24.1x24.1mm; Pitch 1.27mm, Gullwing Leadform, IPC Low Density"
height 7.37
pads (68):
  oval 0.6x2.35 smd: 1(0,14.075) 2(-1.27,14.075) 3(-2.54,14.075) 4(-3.81,14.075) 5(-5.08,14.075) 6(-6.35,14.075) 7(-7.62,14.075) 8(-8.89,14.075) 9(-10.16,14.075) 27(-10.16,-14.075) 28(-8.89,-14.075) 29(-7.62,-14.075) 30(-6.35,-14.075) 31(-5.08,-14.075) 32(-3.81,-14.075) 33(-2.54,-14.075) 34(-1.27,-14.075) 35(0,-14.075) 36(1.27,-14.075) 37(2.54,-14.075) 38(3.81,-14.075) 39(5.08,-14.075) 40(6.35,-14.075) 41(7.62,-14.075) 42(8.89,-14.075) 43(10.16,-14.075) 61(10.16,14.075) 62(8.89,14.075) 63(7.62,14.075) 64(6.35,14.075) 65(5.08,14.075) 66(3.81,14.075) 67(2.54,14.075) 68(1.27,14.075)
  oval 2.35x0.6 smd: 10(-14.075,10.16) 11(-14.075,8.89) 12(-14.075,7.62) 13(-14.075,6.35) 14(-14.075,5.08) 15(-14.075,3.81) 16(-14.075,2.54) 17(-14.075,1.27) 18(-14.075,0) 19(-14.075,-1.27) 20(-14.075,-2.54) 21(-14.075,-3.81) 22(-14.075,-5.08) 23(-14.075,-6.35) 24(-14.075,-7.62) 25(-14.075,-8.89) 26(-14.075,-10.16) 44(14.075,-10.16) 45(14.075,-8.89) 46(14.075,-7.62) 47(14.075,-6.35) 48(14.075,-5.08) 49(14.075,-3.81) 50(14.075,-2.54) 51(14.075,-1.27) 52(14.075,0) 53(14.075,1.27) 54(14.075,2.54) 55(14.075,3.81) 56(14.075,5.08) 57(14.075,6.35) 58(14.075,7.62) 59(14.075,8.89) 60(14.075,10.16)
Top Overlay:
  circle w0.25: c0,15.8 r0.125
  lines w0.2: -0.25,12.5 -0.25,11 0.25,11 0.25,12.5 ; -12.5,-10.16 -12.5,10.16 -10.16,12.5 10.16,12.5 12.5,10.16 12.5,-10.16 10.16,-12.5 -10.16,-12.5 -12.5,-10.16
Mechanical 13:
  lines w0.1: -12.065,-12.065 -12.065,12.065 12.065,12.065 12.065,-12.065 -12.065,-12.065
Mechanical 15:
  lines w0.05: -15.75,-15.75 -15.75,15.75 15.75,15.75 15.75,-15.75 -15.75,-15.75
  lines w0.1: -0.5,0 0.5,0 ; 0,-0.5 0,0.5
3D body: height 7.37, standoff 1.02, extent -12.065,-12.065 12.065,12.065